# Altium schematic symbol library B530C-13-F.SchLib: 1 symbol
Pins are listed as number, name and electrical type; pins without a type are passive.

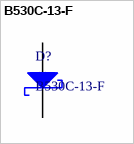
[diagram p0: symbol B530C-13-F]

## B530C-13-F
designator D?
5A SURFACE MOUNT SCHOTTKY BARRIER RECTIFIER
pins: 1, 2